# Altium footprint library RelayBoard.PcbLib: 19 footprints (part 2 of 2)
Each footprint in its own frame and in the unit in brackets; x right, y up, seen from the top. Pads: shape width x height; smd on the part's side, far side on the other; paste and mask are expansions set on the pad; w line width, h text height; cw(c..) or ccw(c..) is an arc to the next point about the centre after c.
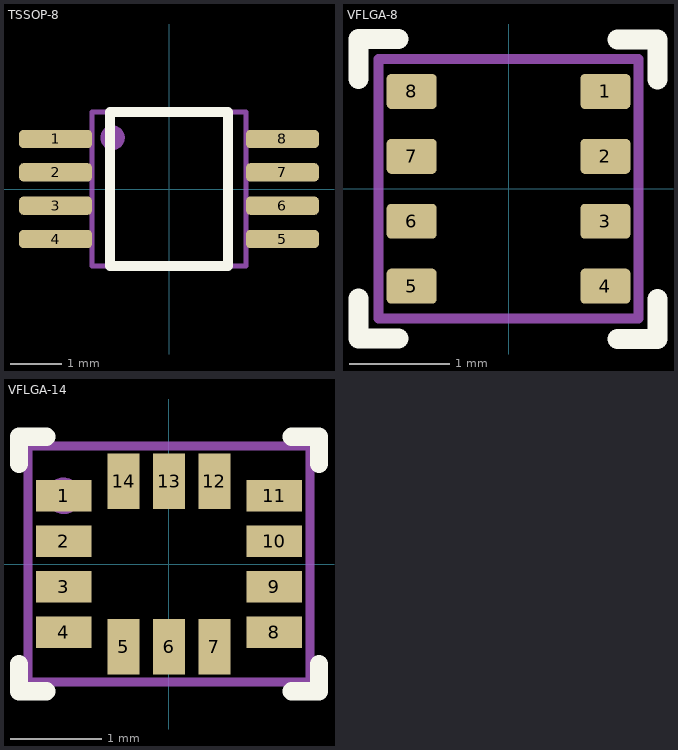
[diagram p1: the footprints below, top view; thin cyan lines are the x and y axes]

## TSSOP-8 [mm]
pads (8):
  rrect50% 1.425x0.36 smd: 1(-2.212,0.975) 2(-2.212,0.325) 3(-2.212,-0.325) 4(-2.212,-0.975) 5(2.212,-0.975) 6(2.212,-0.325) 7(2.212,0.325) 8(2.212,0.975)
Top Overlay:
  lines w0.2: -1.15,-1.5 -1.15,1.5 1.15,1.5 1.15,-1.5 -1.15,-1.5
  text "." at -2.296,1.504 h1.52
Top Mechanical:
  circle w0.254: c-1.1,1 r0.112
  lines w0.1: -1.5,-1.5 1.5,-1.5 1.5,1.5 -1.5,1.5 -1.5,-1.5
  text ".Designator" at -3.434,-0.214 h1.52
3D body "MAX3471EUA+.stp": height 1.1, standoff 0, extent -2.452,-1.5 2.452,1.5

## VFLGA-8 [mm] "Sensor"
pads (8):
  rrect25% 0.5x0.35 smd: 1(0.97,0.975) 2(0.97,0.325) 3(0.97,-0.325) 4(0.97,-0.975) 5(-0.97,-0.975) 6(-0.97,-0.325) 7(-0.97,0.325) 8(-0.97,0.975)
Top Overlay:
  lines w0.2: -1.5,-1.1 -1.5,-1.5 -1.1,-1.5 ; -1.5,1.1 -1.5,1.5 -1.1,1.5 ; 1.089,-1.504 1.489,-1.504 1.489,-1.104 ; 1.089,1.496 1.489,1.496 1.489,1.096
  text "." at 1.754,0.854 h1.52
Top Mechanical:
  circle w0.2: c1,1 r0.05
  lines w0.1: -1.3,-1.3 1.3,-1.3 1.3,1.3 -1.3,1.3 -1.3,-1.3
  text ".Designator" at -3.434,-0.214 h1.52
3D body "BME-280.step": height 1, standoff 0, extent -1.25,-1.25 1.25,1.25

## VFLGA-14 [mm]
pads (14):
  rect 0.61x0.35 smd mask+0: 1(-1.16,0.75) 2(-1.16,0.25) 3(-1.16,-0.25) 4(-1.16,-0.75) 8(1.16,-0.75) 9(1.16,-0.25) 10(1.16,0.25) 11(1.16,0.75)
  rect 0.35x0.61 smd mask+0: 5(-0.5,-0.91) 6(0,-0.91) 7(0.5,-0.91) 12(0.5,0.91) 13(0,0.91) 14(-0.5,0.91)
Top Overlay:
  lines w0.2: -1.65,-1.1 -1.65,-1.4 -1.35,-1.4 ; -1.65,1.1 -1.65,1.4 -1.35,1.4 ; 1.35,-1.4 1.65,-1.4 1.65,-1.1 ; 1.35,1.4 1.65,1.4 1.65,1.1
  text "." at -2.296,0.854 h1.52
Top Mechanical:
  circle w0.2: c-1.16,0.75 r0.1
  lines w0.1: -1.55,-1.3 -1.55,1.3 1.55,1.3 1.55,-1.3 -1.55,-1.3
  text ".Designator" at -3.334,-0.314 h1.52
3D body "LSM6DSOXTR.step": height 0.86, standoff 0, extent -1.5,-1.25 1.5,1.25